# Altium schematic symbol library V8PAL45-M3.SchLib: 2 symbols
Pins are listed as number, name and electrical type; pins without a type are passive.

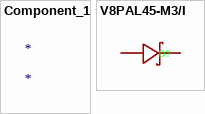
[diagram p0: symbols Component_1 to V8PAL45-M3/I]

## Component_1
designator *

## V8PAL45-M3/I
designator D?  (value not drawn)
45V 4A 570mV@8A DO-221BC(SMPA) Schottky Diodes ROHS; Manufacturer: VISHAY(威世); Add into BOM: yes; Reverse Leakage Current (Ir): 1.85mA@45V; Symbol: V8PAL45-M3/I; Device: V8PAL45-M3/I; LCSC Part Name: 电压:45V 电流:4A; Supplier Part: C3759194; Manufacturer Part: V8PAL45-M3/I; Supplier Footprint: DO-221BC(SMPA); JLCPCB Part Class: Extended Part; Datasheet: https://atta.szlcsc.com/upload/public/pdf/source/20231212/E8913B3A928D0C347C4F04EA6F9113F3.pdf; Supplier: LCSC; Convert to PCB: yes; Forward Voltage (Vf@If): 570mV@8A; Reverse Voltage (Vr): 45V; Rectified Current: 4A
footprint DO-221BC_L4.3-W2.7-LS5.3-RD
3D model DO-221BC_L4.3-W2.7-LS5.3-H0.9-RD
pins: 1 A, 2 K